# EAGLE library part PP140-80CBS3.25X4.25 (library NewSDR)
Leader Tech 3.25" x 4.25" 40 Series Circuit Board Shield (0.4" high)
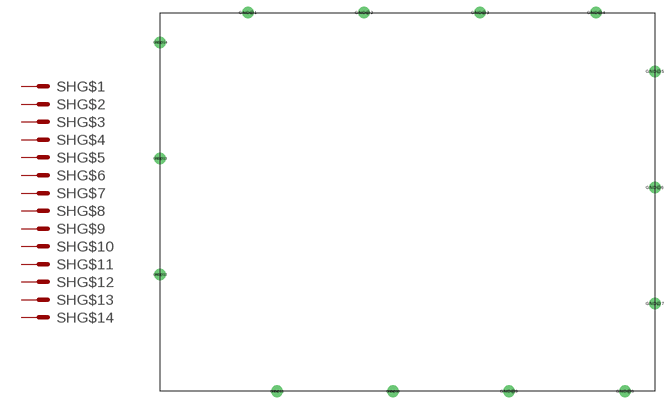
[diagram p24: symbol with the pads of PP140-80CBS3.25X4.25; footprint PP140-80CBS3.25X4.25]

Designator prefix SH; gates G$1=MS G$2=MS G$3=MS G$4=MS G$5=MS G$6=MS G$7=MS G$8=MS G$9=MS G$10=MS G$11=MS G$12=MS G$13=MS G$14=MS

## PP140-80CBS3.25X4.25  [PP140-80CBS3.25X4.25]
GND@1  G$1:MS  pas
GND@2  G$2:MS  pas
GND@3  G$3:MS  pas
GND@4  G$4:MS  pas
GND@5  G$5:MS  pas
GND@6  G$6:MS  pas
GND@7  G$7:MS  pas
GND@8  G$8:MS  pas
GND@9  G$9:MS  pas
GND@10  G$10:MS  pas
GND@11  G$11:MS  pas
GND@12  G$12:MS  pas
GND@13  G$13:MS  pas
GND@14  G$14:MS  pas

## Footprint PP140-80CBS3.25X4.25 (pad centres in mm)
Leader Tech 3.25" x 4.25" 40 Series Circuit Board Shield (0.4" high)
drill 1.27 pad 2.54: GND@1 19.202,0; GND@2 44.602,0; GND@3 70.002,0; GND@4 95.402,0; GND@5 108.255,-12.852; GND@6 108.255,-38.252; GND@7 108.255,-63.652; GND@8 101.752,-82.855; GND@9 76.352,-82.855; GND@10 50.952,-82.855; GND@11 25.552,-82.855; GND@12 0,-57.302; GND@13 0,-31.902; GND@14 0,-6.502